# EAGLE library part 615006149421R (library SD-kart)
MJ_Modular Jack_Tab UP_6P6C_Right Assembly 6P6C Tab UP_Right Assembly housing <http://katalog.we-online.de/media/images/eican/Con_WR-MJ_Horizontal_Plastic_6150xx149421_pf2.jpg> Details see: http://katalog.we-online.de/en/em/MJ_HORIZONTAL_PLASTIC_ASSEMBLY_6P6C_TAB_UP Created 2014-10-16, Dan Xu 2014 (C) Würth Elektronik
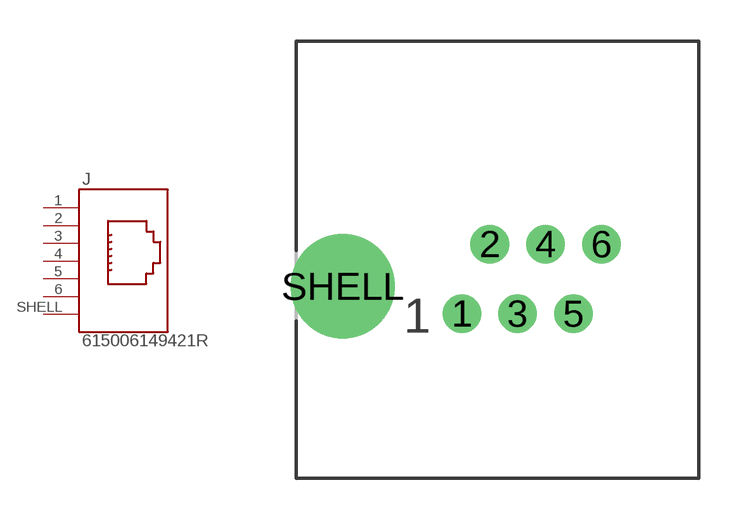
[diagram p146: symbol with the pads of 615006149421R; footprint 615006149421R]

Designator prefix J

## 615006149421R  [615006149421R]
1  6  pas
2  5  pas
3  4  pas
4  3  pas
5  2  pas
6  1  pas
SHELL  SHIELD  pas

## Footprint 615006149421R (pad centres in mm)
WR-MJ_Modular Jack_Tab UP_6P6C_Right Assembly 6P6C Tab UP_Right Assembly housing
drill 0.9: 1 -5.08,-2.54; 2 -4.06,0; 3 -3.04,-2.54; 4 -2.02,0; 5 -1,-2.54; 6 0.02,0
drill 2.8: SHELL -9.43,-1.54